# EAGLE library part SPI-FLASH (library dan-nvm)
8-pin SPI flash
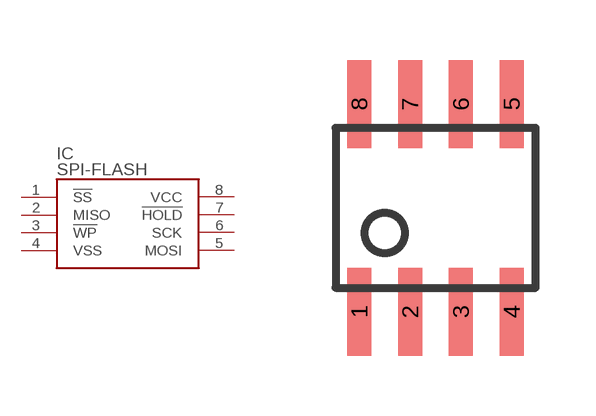
[diagram p1: symbol with the pads of SOIC8; footprint SOIC8]

Designator prefix IC

## SPI-FLASH  [SOIC8]
1  !SS  in
2  MISO  out
3  !WP  in
4  VSS  pas
5  MOSI  in
6  SCK  in
7  !HOLD  in
8  VCC  pas

## Footprint SOIC8 (pad centres in mm)
SOIC8 From DS90LV001 datasheet: http://cache.national.com/ds/DS/DS90LV001.pdf
smd 0.6 x 2.2: 1 -1.905,-2.6; 2 -0.635,-2.6; 3 0.635,-2.6; 4 1.905,-2.6; 5 1.905,2.6; 6 0.635,2.6; 7 -0.635,2.6; 8 -1.905,2.6